# Altium footprint library PDB_footprint.PcbLib: 11 footprints
Each footprint in its own frame and in the unit in brackets; x right, y up, seen from the top. Pads: shape width x height; smd on the part's side, far side on the other; paste and mask are expansions set on the pad; w line width, h text height; cw(c..) or ccw(c..) is an arc to the next point about the centre after c.
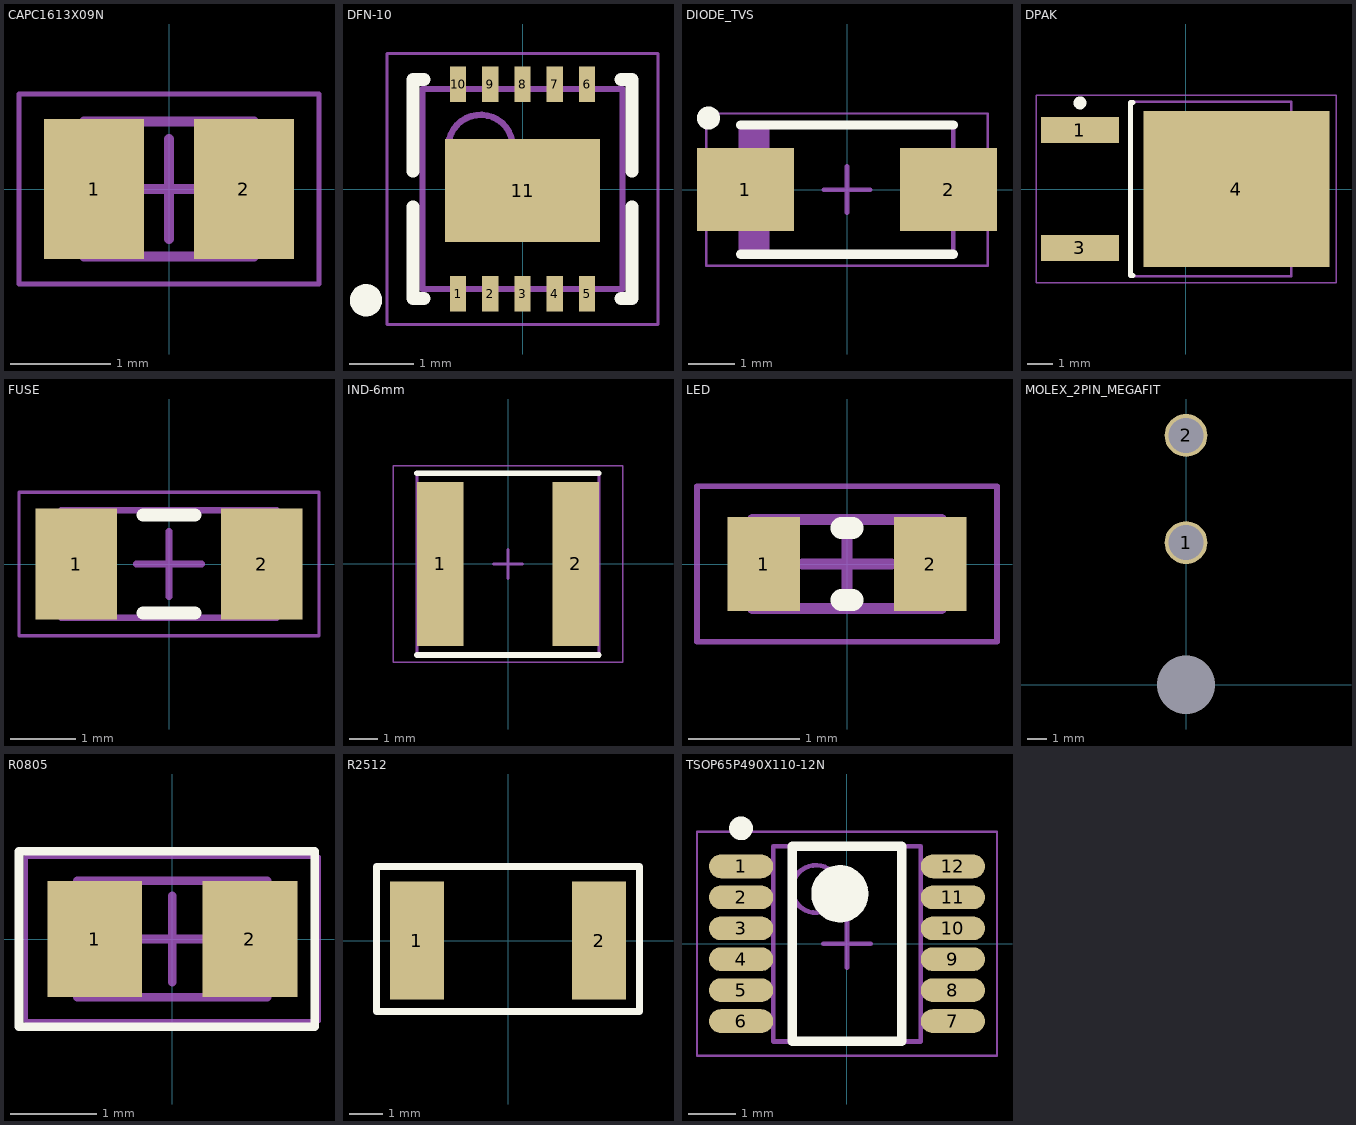
[diagram p0: the footprints below, top view; thin cyan lines are the x and y axes]

## CAPC1613X09N [mm] "Chip Capacitor, 2-Leads, Body 1.60x1.30mm, IPC Medium Density"
height 0.9
pads (2):
  rect 1x1.4 smd: 1(-0.75,0) 2(0.75,0)
Mechanical 13:
  lines w0.1: -0.85,-0.675 0.85,-0.675 0.85,0.675 -0.85,0.675 -0.85,-0.675
Mechanical 15:
  lines w0.05: -1.5,-0.95 1.5,-0.95 1.5,0.95 -1.5,0.95 -1.5,-0.95
  lines w0.1: -0.5,0 0.5,0 ; 0,-0.5 0,0.5
3D body "CAPC1613X09N.step": height 0.9, standoff 0, extent -0.85,-0.675 0.85,0.675

## DFN-10 [mm] "QFN, 10-Leads, Body 3.00x3.00mm, Pitch 0.50mm, Thermal Pad 2.40x1.60mm, IPC Medium Density"
height 0.63
pads (11):
  rect 0.25x0.55 smd: 1(-1,-1.625) 2(-0.5,-1.625) 3(0,-1.625) 4(0.5,-1.625) 5(1,-1.625) 6(1,1.625) 7(0.5,1.625) 8(0,1.625) 9(-0.5,1.625) 10(-1,1.625)
  rect 2.4x1.6 smd: 11(0,-0.025)
Top Overlay:
  circle w0.25: c-2.425,-1.725 r0.125
  lines w0.2: -1.7,-0.275 -1.7,-1.7 -1.525,-1.7 ; -1.7,0.275 -1.7,1.7 -1.525,1.7 ; 1.525,-1.7 1.7,-1.7 1.7,-0.275 ; 1.525,1.7 1.7,1.7 1.7,0.275
Mechanical 13:
  circle w0.1: c-0.65,0.65 r0.5
  lines w0.1: -1.55,-1.55 -1.55,1.55 1.55,1.55 1.55,-1.55 -1.55,-1.55
Mechanical 15:
  lines w0.05: -2.1,-2.1 -2.1,2.1 2.1,2.1 2.1,-2.1 -2.1,-2.1
  lines w0.1: -0.5,0 0.5,0 ; 0,-0.5 0,0.5
3D body "QFN50P300X300X63_HS-11N.step": height 0.63, standoff 0, extent -1.55,-1.6 1.55,1.6

## DIODE_TVS [mm] "Molded Diode, 2-Leads, Body 4.29x2.59mm, IPC Medium Density"
height 2.29
pads (2):
  rect 2.1x1.8 smd: 1(-2.2,0) 2(2.2,0)
Top Overlay:
  circle w0.25: c-3,1.55 r0.125
  lines w0.2: -2.3,-1.4 2.3,-1.4 ; -2.3,1.4 2.3,1.4
Mechanical 13:
  rectangle: -2.3,-1.395 -1.681,1.395
  lines w0.1: -2.3,-1.395 2.3,-1.395 2.3,1.395 -2.3,1.395 -2.3,-1.395
Mechanical 15:
  lines w0.05: -3.05,-1.65 3.05,-1.65 3.05,1.65 -3.05,1.65 -3.05,-1.65
  lines w0.1: -0.5,0 0.5,0 ; 0,-0.5 0,0.5
3D body "DIOM4326X23N.step": height 2.29, standoff 0, extent -2.52,-1.395 2.52,1.395

## DPAK [mm] "D-PAK, 3-Pads, Body 6.21x6.73mm (max), IPC Medium Density"
height 2.39
pads (3):
  rect 3x1 smd: 1(-4.1,2.28) 3(-4.1,-2.28)
  rect 7.2x6.05 smd: 4(1.95,0)
Top Overlay:
  circle w0.25: c-4.1,3.33 r0.125
  lines w0.2: -2.05,-3.35 -2.15,-3.35 -2.15,3.35 -2.05,3.35
Mechanical 13:
  lines w0.1: -2.15,-3.375 -2.15,3.375 4.07,3.375 4.07,-3.375 -2.15,-3.375
Mechanical 15:
  lines w0.05: -5.8,-3.625 -5.8,3.625 5.8,3.625 5.8,-3.625 -5.8,-3.625
  lines w0.1: -0.5,0 0.5,0 ; 0,-0.5 0,0.5
3D body "DPAK228P991X239-3N.step": height 2.52, standoff 0, extent -4.39,-3.375 5.515,3.375

## FUSE [mm] "Chip Diode, 2-Leads, Body 3.18x1.52mm, IPC Medium Density"
height 1.15
pads (2):
  rect 1.25x1.7 smd: 1(-1.425,0) 2(1.425,0)
Top Overlay:
  lines w0.2: -0.4,-0.75 0.4,-0.75 ; -0.4,0.75 0.4,0.75
Mechanical 13:
  lines w0.1: -1.65,-0.825 1.65,-0.825 1.65,0.825 -1.65,0.825 -1.65,-0.825
Mechanical 15:
  lines w0.05: -2.3,-1.1 2.3,-1.1 2.3,1.1 -2.3,1.1 -2.3,-1.1
  lines w0.1: -0.5,0 0.5,0 ; 0,-0.5 0,0.5
3D body: height 1.15, standoff 0, extent 1.01,-0.825 1.65,0.825
3D body: height 1.15, standoff 0, extent -1.65,-0.825 -1.01,0.825
3D body: height 1.15, standoff 0, extent -1.01,-0.825 1.01,0.825

## IND-6mm [mm] "Precision Wire Wound Inductor, 2-Leads, Body 6.00x6.00mm, IPC Medium Density"
height 4.5
pads (2):
  rect 1.6x5.7 smd: 1(-2.35,0) 2(2.35,0)
Top Overlay:
  lines w0.2: -3.15,-3.15 3.15,-3.15 ; -3.15,3.15 3.15,3.15
Mechanical 13:
  lines w0.1: -3.15,-3.15 -3.15,3.15 3.15,3.15 3.15,-3.15 -3.15,-3.15
Mechanical 15:
  lines w0.05: -3.975,-3.4 -3.975,3.4 3.975,3.4 3.975,-3.4 -3.975,-3.4
  lines w0.1: -0.5,0 0.5,0 ; 0,-0.5 0,0.5
3D body "INDP6060X45N.step": height 4.6, standoff 0, extent -3.1,-3 3.1,3

## LED [mm] "Chip Capacitor, 2-Leads, Body 1.60x0.70mm, IPC Medium Density"
height 0.8
pads (2):
  rect 0.65x0.85 smd: 1(-0.75,0) 2(0.75,0)
Top Overlay:
  lines w0.2: -0.05,-0.325 0.05,-0.325 ; -0.05,0.325 0.05,0.325
Mechanical 13:
  lines w0.1: -0.85,-0.4 0.85,-0.4 0.85,0.4 -0.85,0.4 -0.85,-0.4
Mechanical 15:
  lines w0.05: -1.35,-0.7 1.35,-0.7 1.35,0.7 -1.35,0.7 -1.35,-0.7
  lines w0.1: -0.4,0 0.4,0 ; 0,-0.4 0,0.4
3D body "CAPC1607X08N.step": height 0.8, standoff 0, extent -0.85,-0.4 0.85,0.4

## MOLEX_2PIN_MEGAFIT [mm]
pads (3):
  round 2.2 hole 1.8: 1(0,7.3) 2(0,12.8)
  round 0 hole 3: ""(0,0)
3D body "molex_megafit.stp": height 14.75, standoff -3.38, extent -4.1,-8.581 4.249,13.381

## R0805 [mm] "Chip Resistor, 2-Leads, Body 2.09x1.30mm, IPC Medium Density"
height 0.6
pads (2):
  rect 1.1x1.35 smd: 1(-0.9,0) 2(0.9,0)
Top Overlay:
  lines w0.1: -1.778,-1.016 1.651,-1.016 1.651,1.016 -1.778,1.016 -1.778,-1.016
Mechanical 13:
  lines w0.1: -1.1,-0.675 1.1,-0.675 1.1,0.675 -1.1,0.675 -1.1,-0.675
Mechanical 15:
  lines w0.05: -1.7,-0.95 1.7,-0.95 1.7,0.95 -1.7,0.95 -1.7,-0.95
  lines w0.1: -0.5,0 0.5,0 ; 0,-0.5 0,0.5
3D body "RESC2113X06N.step": height 0.6, standoff 0, extent -1.1,-0.675 1.1,0.675

## R2512 [mm]
pads (2):
  rect 1.6x3.5 smd: 1(-2.7,0) 2(2.7,0)
Top Overlay:
  lines w0.2: -3.9,-2.1 3.9,-2.1 3.9,2.2 -3.9,2.2 -3.9,-2.1

## TSOP65P490X110-12N [mm] "TSOP, 12-Leads, Body 4.04x3.00mm, Pitch 0.65mm, IPC Medium Density"
height 1.1
pads (12):
  oval 1.35x0.5 smd: 1(-2.225,1.625) 2(-2.225,0.975) 3(-2.225,0.325) 4(-2.225,-0.325) 5(-2.225,-0.975) 6(-2.225,-1.625) 7(2.225,-1.625) 8(2.225,-0.975) 9(2.225,-0.325) 10(2.225,0.325) 11(2.225,0.975) 12(2.225,1.625)
Top Overlay:
  circle w0.6: c-0.15,1.05 r0.3
  circle w0.25: c-2.225,2.425 r0.125
  lines w0.2: -1.15,-2.05 1.15,-2.05 1.15,2.05 -1.15,2.05 -1.15,-2.05
Mechanical 13:
  circle w0.1: c-0.65,1.15 r0.5
  lines w0.1: -1.55,-2.05 1.55,-2.05 1.55,2.05 -1.55,2.05 -1.55,-2.05
Mechanical 15:
  lines w0.05: -3.15,-2.35 3.15,-2.35 3.15,2.35 -3.15,2.35 -3.15,-2.35
  lines w0.1: -0.5,0 0.5,0 ; 0,-0.5 0,0.5
3D body "TSOP65P490X110-12N.step": height 1.1, standoff 0, extent -2.45,-2.05 2.45,2.05